# Altium footprint library SparkFun-Connectors.PCBLIB: 312 footprints (part 10 of 20)
Each footprint in its own frame and in the unit in brackets; x right, y up, seen from the top. Pads: shape width x height; smd on the part's side, far side on the other; paste and mask are expansions set on the pad; w line width, h text height; cw(c..) or ccw(c..) is an arc to the next point about the centre after c.
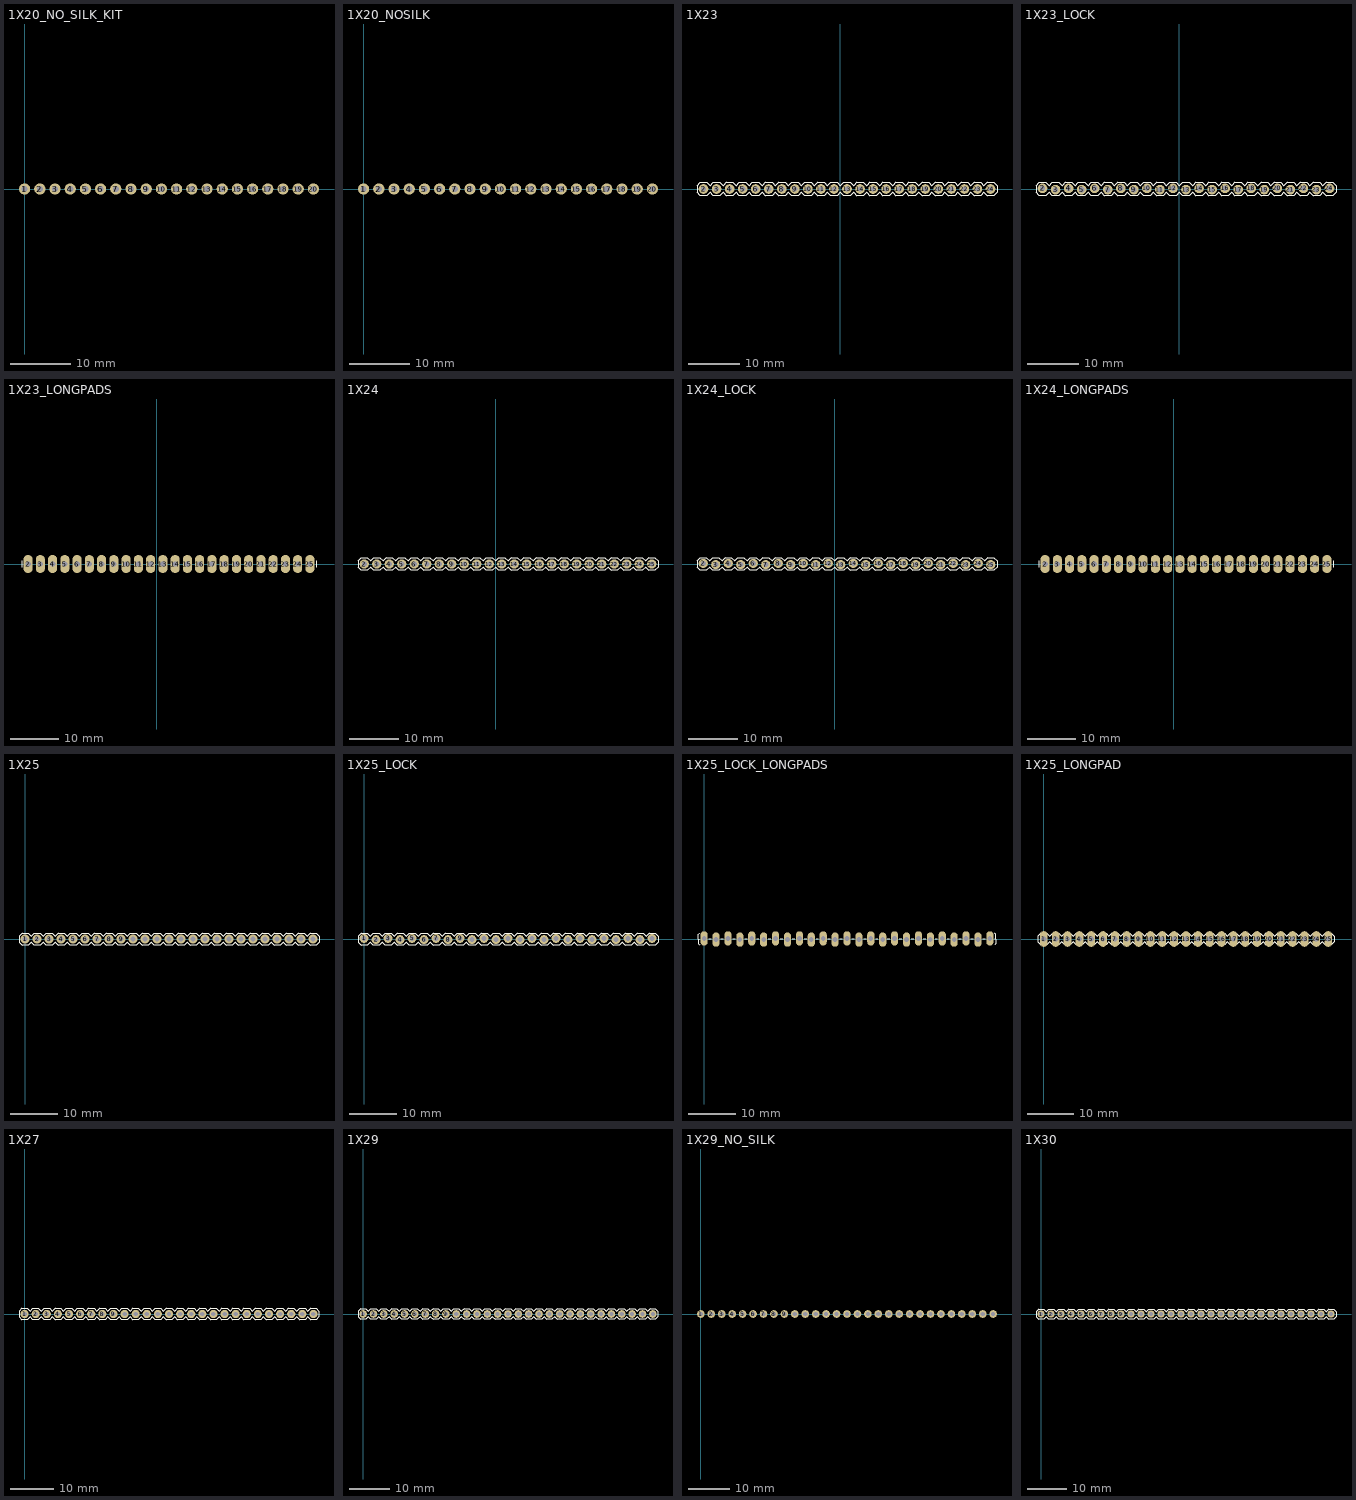
[diagram p9: the footprints below, top view; thin cyan lines are the x and y axes]

## 1X20_NO_SILK_KIT [mil]
pads (20):
  round 74 hole 40: 1(0,0) 2(100,0) 3(200,0) 4(300,0) 5(400,0) 6(500,0) 7(600,0) 8(700,0) 9(800,0) 10(900,0) 11(1000,0) 12(1100,0) 13(1200,0) 14(1300,0) 15(1400,0) 16(1500,0) 17(1600,0) 18(1700,0) 19(1800,0) 20(1900,0)
Top Solder:
  circle w0: c0,0 r20
  circle w0: c100,0 r20
  circle w0: c200,0 r20
  circle w0: c300,0 r20
  circle w0: c400,0 r20
  circle w0: c500,0 r20
  circle w0: c600,0 r20
  circle w0: c700,0 r20
  circle w0: c800,0 r20
  circle w0: c900,0 r20
  circle w0: c1000,0 r20
  circle w0: c1100,0 r20
  circle w0: c1200,0 r20
  circle w0: c1300,0 r20
  circle w0: c1400,0 r20
  circle w0: c1500,0 r20
  circle w0: c1600,0 r20
  circle w0: c1700,0 r20
  circle w0: c1800,0 r20
  circle w0: c1900,0 r20
Bottom Solder:
  circle w0: c0,0 r37
  circle w0: c100,0 r37
  circle w0: c200,0 r37
  circle w0: c300,0 r37
  circle w0: c400,0 r37
  circle w0: c500,0 r37
  circle w0: c600,0 r37
  circle w0: c700,0 r37
  circle w0: c800,0 r37
  circle w0: c900,0 r37
  circle w0: c1000,0 r37
  circle w0: c1100,0 r37
  circle w0: c1200,0 r37
  circle w0: c1300,0 r37
  circle w0: c1400,0 r37
  circle w0: c1500,0 r37
  circle w0: c1600,0 r37
  circle w0: c1700,0 r37
  circle w0: c1800,0 r37
  circle w0: c1900,0 r37

## 1X20_NOSILK [mil]
pads (20):
  round 74 hole 40: 1(0,0) 2(100,0) 3(200,0) 4(300,0) 5(400,0) 6(500,0) 7(600,0) 8(700,0) 9(800,0) 10(900,0) 11(1000,0) 12(1100,0) 13(1200,0) 14(1300,0) 15(1400,0) 16(1500,0) 17(1600,0) 18(1700,0) 19(1800,0) 20(1900,0)
Mechanical 16:
  rectangle: 590,-10 610,10
  rectangle: 490,-10 510,10
  rectangle: 390,-10 410,10
  rectangle: 290,-10 310,10
  rectangle: 190,-10 210,10
  rectangle: 90,-10 110,10
  rectangle: -10,-10 10,10
  rectangle: 1290,-10 1310,10
  rectangle: 1190,-10 1210,10
  rectangle: 1090,-10 1110,10
  rectangle: 990,-10 1010,10
  rectangle: 890,-10 910,10
  rectangle: 790,-10 810,10
  rectangle: 690,-10 710,10
  rectangle: 1390,-10 1410,10
  rectangle: 1490,-10 1510,10
  rectangle: 1590,-10 1610,10
  rectangle: 1690,-10 1710,10
  rectangle: 1790,-10 1810,10
  rectangle: 1890,-10 1910,10

## 1X23 [mil]
pads (23):
  round 74 hole 40: 2(-1050,0) 3(-950,0) 4(-850,0) 5(-750,0) 6(-650,0) 7(-550,0) 8(-450,0) 9(-350,0) 10(-250,0) 11(-150,0) 12(-50,0) 13(50,0) 14(150,0) 15(250,0) 16(350,0) 17(450,0) 18(550,0) 19(650,0) 20(750,0) 21(850,0) 22(950,0) 23(1050,0) 24(1150,0)
Top Overlay:
  lines w8: -1100,-25 -1075,-50 -1025,-50 -1000,-25 -975,-50 -925,-50 -900,-25 -875,-50 -825,-50 -800,-25 -775,-50 -725,-50 -700,-25 -675,-50 -625,-50 -600,-25 -575,-50 -525,-50 -500,-25 -475,-50 -425,-50 -400,-25 -375,-50 -325,-50 -300,-25 -275,-50 -225,-50 -200,-25 -175,-50 -125,-50 -100,-25 -75,-50 -25,-50 0,-25 25,-50 75,-50 100,-25 125,-50 175,-50 200,-25 225,-50 275,-50 300,-25 325,-50 375,-50 400,-25 425,-50 475,-50 500,-25 525,-50 575,-50 600,-25 625,-50 675,-50 700,-25 725,-50 775,-50 800,-25 825,-50 875,-50 900,-25 925,-50 975,-50 1000,-25 1025,-50 1075,-50 1100,-25 1125,-50 1175,-50 1200,-25 1200,25 1175,50 1125,50 1100,25 1075,50 1025,50 1000,25 975,50 925,50 900,25 875,50 825,50 800,25 775,50 725,50 700,25 675,50 625,50 600,25 575,50 525,50 500,25 475,50 425,50 400,25 375,50 325,50 300,25 275,50 225,50 200,25 175,50 125,50 100,25 75,50 25,50 0,25 -25,50 -75,50 -100,25 -125,50 -175,50 -200,25 -225,50 -275,50 -300,25 -325,50 -375,50 -400,25 -425,50 -475,50 -500,25 -525,50 -575,50 -600,25 -625,50 -675,50 -700,25 -725,50 -775,50 -800,25 -825,50 -875,50 -900,25 -925,50 -975,50 -1000,25 -1025,50 -1075,50 -1100,25 -1100,-25
Mechanical 16:
  rectangle: -560,-10 -540,10
  rectangle: -660,-10 -640,10
  rectangle: -760,-10 -740,10
  rectangle: -860,-10 -840,10
  rectangle: -960,-10 -940,10
  rectangle: -1060,-10 -1040,10
  rectangle: 140,-10 160,10
  rectangle: 40,-10 60,10
  rectangle: -60,-10 -40,10
  rectangle: -160,-10 -140,10
  rectangle: -260,-10 -240,10
  rectangle: -360,-10 -340,10
  rectangle: -460,-10 -440,10
  rectangle: 240,-10 260,10
  rectangle: 340,-10 360,10
  rectangle: 440,-10 460,10
  rectangle: 540,-10 560,10
  rectangle: 640,-10 660,10
  rectangle: 740,-10 760,10
  rectangle: 840,-10 860,10
  rectangle: 940,-10 960,10
  rectangle: 1040,-10 1060,10
  rectangle: 1140,-10 1160,10

## 1X23_LOCK [mil]
pads (23):
  round 74 hole 40: 2(-1050,5) 3(-950,-5) 4(-850,5) 5(-750,-5) 6(-650,5) 7(-550,-5) 8(-450,5) 9(-350,-5) 10(-250,5) 11(-150,-5) 12(-50,5) 13(50,-5) 14(150,5) 15(250,-5) 16(350,5) 17(450,-5) 18(550,5) 19(650,-5) 20(750,5) 21(850,-5) 22(950,5) 23(1050,-5) 24(1150,5)
Top Overlay:
  lines w8: -1100,-25 -1075,-50 -1025,-50 -1000,-25 -975,-50 -925,-50 -900,-25 -875,-50 -825,-50 -800,-25 -775,-50 -725,-50 -700,-25 -675,-50 -625,-50 -600,-25 -575,-50 -525,-50 -500,-25 -475,-50 -425,-50 -400,-25 -375,-50 -325,-50 -300,-25 -275,-50 -225,-50 -200,-25 -175,-50 -125,-50 -100,-25 -75,-50 -25,-50 0,-25 25,-50 75,-50 100,-25 125,-50 175,-50 200,-25 225,-50 275,-50 300,-25 325,-50 375,-50 400,-25 425,-50 475,-50 500,-25 525,-50 575,-50 600,-25 625,-50 675,-50 700,-25 725,-50 775,-50 800,-25 825,-50 875,-50 900,-25 925,-50 975,-50 1000,-25 1025,-50 1075,-50 1100,-25 1125,-50 1175,-50 1200,-25 1200,25 1175,50 1125,50 1100,25 1075,50 1025,50 1000,25 975,50 925,50 900,25 875,50 825,50 800,25 775,50 725,50 700,25 675,50 625,50 600,25 575,50 525,50 500,25 475,50 425,50 400,25 375,50 325,50 300,25 275,50 225,50 200,25 175,50 125,50 100,25 75,50 25,50 0,25 -25,50 -75,50 -100,25 -125,50 -175,50 -200,25 -225,50 -275,50 -300,25 -325,50 -375,50 -400,25 -425,50 -475,50 -500,25 -525,50 -575,50 -600,25 -625,50 -675,50 -700,25 -725,50 -775,50 -800,25 -825,50 -875,50 -900,25 -925,50 -975,50 -1000,25 -1025,50 -1075,50 -1100,25 -1100,-25
Mechanical 16:
  rectangle: -560,-10 -540,10
  rectangle: -660,-10 -640,10
  rectangle: -760,-10 -740,10
  rectangle: -860,-10 -840,10
  rectangle: -960,-10 -940,10
  rectangle: -1060,-10 -1040,10
  rectangle: 140,-10 160,10
  rectangle: 40,-10 60,10
  rectangle: -60,-10 -40,10
  rectangle: -160,-10 -140,10
  rectangle: -260,-10 -240,10
  rectangle: -360,-10 -340,10
  rectangle: -460,-10 -440,10
  rectangle: 240,-10 260,10
  rectangle: 340,-10 360,10
  rectangle: 440,-10 460,10
  rectangle: 540,-10 560,10
  rectangle: 640,-10 660,10
  rectangle: 740,-10 760,10
  rectangle: 840,-10 860,10
  rectangle: 940,-10 960,10
  rectangle: 1040,-10 1060,10
  rectangle: 1140,-10 1160,10

## 1X23_LONGPADS [mil]
pads (24):
  oval 74x148 hole 44: 2(-1050,0) 3(-950,0) 4(-850,0) 5(-750,0) 6(-650,0) 7(-550,0) 8(-450,0) 9(-350,0) 10(-250,0) 11(-150,0) 12(-50,0) 13(50,0) 14(150,0) 15(250,0) 16(350,0) 17(450,0) 18(550,0) 19(650,0) 20(750,0) 21(850,0) 22(950,0) 23(1050,0) 24(1150,0) 25(1250,0)
Top Overlay:
  lines w8: -1100,-25 -1100,25 ; 1300,-25 1300,25
Mechanical 16:
  rectangle: -560,-10 -540,10
  rectangle: -660,-10 -640,10
  rectangle: -760,-10 -740,10
  rectangle: -860,-10 -840,10
  rectangle: -960,-10 -940,10
  rectangle: -1060,-10 -1040,10
  rectangle: 140,-10 160,10
  rectangle: 40,-10 60,10
  rectangle: -60,-10 -40,10
  rectangle: -160,-10 -140,10
  rectangle: -260,-10 -240,10
  rectangle: -360,-10 -340,10
  rectangle: -460,-10 -440,10
  rectangle: 240,-10 260,10
  rectangle: 340,-10 360,10
  rectangle: 440,-10 460,10
  rectangle: 540,-10 560,10
  rectangle: 640,-10 660,10
  rectangle: 740,-10 760,10
  rectangle: 840,-10 860,10
  rectangle: 940,-10 960,10
  rectangle: 1040,-10 1060,10
  rectangle: 1140,-10 1160,10
  rectangle: 1240,-10 1260,10

## 1X24 [mil]
pads (24):
  round 74 hole 40: 2(-1050,0) 3(-950,0) 4(-850,0) 5(-750,0) 6(-650,0) 7(-550,0) 8(-450,0) 9(-350,0) 10(-250,0) 11(-150,0) 12(-50,0) 13(50,0) 14(150,0) 15(250,0) 16(350,0) 17(450,0) 18(550,0) 19(650,0) 20(750,0) 21(850,0) 22(950,0) 23(1050,0) 24(1150,0) 25(1250,0)
Top Overlay:
  lines w8: -1100,-25 -1075,-50 -1025,-50 -1000,-25 -975,-50 -925,-50 -900,-25 -875,-50 -825,-50 -800,-25 -775,-50 -725,-50 -700,-25 -675,-50 -625,-50 -600,-25 -575,-50 -525,-50 -500,-25 -475,-50 -425,-50 -400,-25 -375,-50 -325,-50 -300,-25 -275,-50 -225,-50 -200,-25 -175,-50 -125,-50 -100,-25 -75,-50 -25,-50 0,-25 25,-50 75,-50 100,-25 125,-50 175,-50 200,-25 225,-50 275,-50 300,-25 325,-50 375,-50 400,-25 425,-50 475,-50 500,-25 525,-50 575,-50 600,-25 625,-50 675,-50 700,-25 725,-50 775,-50 800,-25 825,-50 875,-50 900,-25 925,-50 975,-50 1000,-25 1025,-50 1075,-50 1100,-25 1125,-50 1175,-50 1200,-25 1225,-50 1275,-50 1300,-25 1300,25 1275,50 1225,50 1200,25 1175,50 1125,50 1100,25 1075,50 1025,50 1000,25 975,50 925,50 900,25 875,50 825,50 800,25 775,50 725,50 700,25 675,50 625,50 600,25 575,50 525,50 500,25 475,50 425,50 400,25 375,50 325,50 300,25 275,50 225,50 200,25 175,50 125,50 100,25 75,50 25,50 0,25 -25,50 -75,50 -100,25 -125,50 -175,50 -200,25 -225,50 -275,50 -300,25 -325,50 -375,50 -400,25 -425,50 -475,50 -500,25 -525,50 -575,50 -600,25 -625,50 -675,50 -700,25 -725,50 -775,50 -800,25 -825,50 -875,50 -900,25 -925,50 -975,50 -1000,25 -1025,50 -1075,50 -1100,25 -1100,-25
Mechanical 16:
  rectangle: -560,-10 -540,10
  rectangle: -660,-10 -640,10
  rectangle: -760,-10 -740,10
  rectangle: -860,-10 -840,10
  rectangle: -960,-10 -940,10
  rectangle: -1060,-10 -1040,10
  rectangle: 140,-10 160,10
  rectangle: 40,-10 60,10
  rectangle: -60,-10 -40,10
  rectangle: -160,-10 -140,10
  rectangle: -260,-10 -240,10
  rectangle: -360,-10 -340,10
  rectangle: -460,-10 -440,10
  rectangle: 240,-10 260,10
  rectangle: 340,-10 360,10
  rectangle: 440,-10 460,10
  rectangle: 540,-10 560,10
  rectangle: 640,-10 660,10
  rectangle: 740,-10 760,10
  rectangle: 840,-10 860,10
  rectangle: 940,-10 960,10
  rectangle: 1040,-10 1060,10
  rectangle: 1140,-10 1160,10
  rectangle: 1240,-10 1260,10

## 1X24_LOCK [mil]
pads (24):
  round 74 hole 40: 2(-1050,5) 3(-950,-5) 4(-850,5) 5(-750,-5) 6(-650,5) 7(-550,-5) 8(-450,5) 9(-350,-5) 10(-250,5) 11(-150,-5) 12(-50,5) 13(50,-5) 14(150,5) 15(250,-5) 16(350,5) 17(450,-5) 18(550,5) 19(650,-5) 20(750,5) 21(850,-5) 22(950,5) 23(1050,-5) 24(1150,5) 25(1250,-5)
Top Overlay:
  lines w8: -1100,-25 -1075,-50 -1025,-50 -1000,-25 -975,-50 -925,-50 -900,-25 -875,-50 -825,-50 -800,-25 -775,-50 -725,-50 -700,-25 -675,-50 -625,-50 -600,-25 -575,-50 -525,-50 -500,-25 -475,-50 -425,-50 -400,-25 -375,-50 -325,-50 -300,-25 -275,-50 -225,-50 -200,-25 -175,-50 -125,-50 -100,-25 -75,-50 -25,-50 0,-25 25,-50 75,-50 100,-25 125,-50 175,-50 200,-25 225,-50 275,-50 300,-25 325,-50 375,-50 400,-25 425,-50 475,-50 500,-25 525,-50 575,-50 600,-25 625,-50 675,-50 700,-25 725,-50 775,-50 800,-25 825,-50 875,-50 900,-25 925,-50 975,-50 1000,-25 1025,-50 1075,-50 1100,-25 1125,-50 1175,-50 1200,-25 1225,-50 1275,-50 1300,-25 1300,25 1275,50 1225,50 1200,25 1175,50 1125,50 1100,25 1075,50 1025,50 1000,25 975,50 925,50 900,25 875,50 825,50 800,25 775,50 725,50 700,25 675,50 625,50 600,25 575,50 525,50 500,25 475,50 425,50 400,25 375,50 325,50 300,25 275,50 225,50 200,25 175,50 125,50 100,25 75,50 25,50 0,25 -25,50 -75,50 -100,25 -125,50 -175,50 -200,25 -225,50 -275,50 -300,25 -325,50 -375,50 -400,25 -425,50 -475,50 -500,25 -525,50 -575,50 -600,25 -625,50 -675,50 -700,25 -725,50 -775,50 -800,25 -825,50 -875,50 -900,25 -925,50 -975,50 -1000,25 -1025,50 -1075,50 -1100,25 -1100,-25
Mechanical 16:
  rectangle: -560,-10 -540,10
  rectangle: -660,-10 -640,10
  rectangle: -760,-10 -740,10
  rectangle: -860,-10 -840,10
  rectangle: -960,-10 -940,10
  rectangle: -1060,-10 -1040,10
  rectangle: 140,-10 160,10
  rectangle: 40,-10 60,10
  rectangle: -60,-10 -40,10
  rectangle: -160,-10 -140,10
  rectangle: -260,-10 -240,10
  rectangle: -360,-10 -340,10
  rectangle: -460,-10 -440,10
  rectangle: 240,-10 260,10
  rectangle: 340,-10 360,10
  rectangle: 440,-10 460,10
  rectangle: 540,-10 560,10
  rectangle: 640,-10 660,10
  rectangle: 740,-10 760,10
  rectangle: 840,-10 860,10
  rectangle: 940,-10 960,10
  rectangle: 1040,-10 1060,10
  rectangle: 1140,-10 1160,10
  rectangle: 1240,-10 1260,10

## 1X24_LONGPADS [mil]
pads (24):
  oval 74x148 hole 44: 2(-1050,0) 3(-950,0) 4(-850,0) 5(-750,0) 6(-650,0) 7(-550,0) 8(-450,0) 9(-350,0) 10(-250,0) 11(-150,0) 12(-50,0) 13(50,0) 14(150,0) 15(250,0) 16(350,0) 17(450,0) 18(550,0) 19(650,0) 20(750,0) 21(850,0) 22(950,0) 23(1050,0) 24(1150,0) 25(1250,0)
Top Overlay:
  lines w8: -1100,-25 -1100,25 ; 1300,-25 1300,25
Mechanical 16:
  rectangle: -560,-10 -540,10
  rectangle: -660,-10 -640,10
  rectangle: -760,-10 -740,10
  rectangle: -860,-10 -840,10
  rectangle: -960,-10 -940,10
  rectangle: -1060,-10 -1040,10
  rectangle: 140,-10 160,10
  rectangle: 40,-10 60,10
  rectangle: -60,-10 -40,10
  rectangle: -160,-10 -140,10
  rectangle: -260,-10 -240,10
  rectangle: -360,-10 -340,10
  rectangle: -460,-10 -440,10
  rectangle: 240,-10 260,10
  rectangle: 340,-10 360,10
  rectangle: 440,-10 460,10
  rectangle: 540,-10 560,10
  rectangle: 640,-10 660,10
  rectangle: 740,-10 760,10
  rectangle: 840,-10 860,10
  rectangle: 940,-10 960,10
  rectangle: 1040,-10 1060,10
  rectangle: 1140,-10 1160,10
  rectangle: 1240,-10 1260,10

## 1X25 [mil]
pads (25):
  round 74 hole 40: 1(0,0) 2(100,0) 3(200,0) 4(300,0) 5(400,0) 6(500,0) 7(600,0) 8(700,0) 9(800,0) 10(900,0) 11(1000,0) 12(1100,0) 13(1200,0) 14(1300,0) 15(1400,0) 16(1500,0) 17(1600,0) 18(1700,0) 19(1800,0) 20(1900,0) 21(2000,0) 22(2100,0) 23(2200,0) 24(2300,0) 25(2400,0)
Top Overlay:
  drawing of 152 lines, arcs and shapes, not listed
Mechanical 16:
  rectangle: 590,-10 610,10
  rectangle: 490,-10 510,10
  rectangle: 390,-10 410,10
  rectangle: 290,-10 310,10
  rectangle: 190,-10 210,10
  rectangle: 90,-10 110,10
  rectangle: -10,-10 10,10
  rectangle: 1290,-10 1310,10
  rectangle: 1190,-10 1210,10
  rectangle: 1090,-10 1110,10
  rectangle: 990,-10 1010,10
  rectangle: 890,-10 910,10
  rectangle: 790,-10 810,10
  rectangle: 690,-10 710,10
  rectangle: 1390,-10 1410,10
  rectangle: 1490,-10 1510,10
  rectangle: 1590,-10 1610,10
  rectangle: 1690,-10 1710,10
  rectangle: 1790,-10 1810,10
  rectangle: 1890,-10 1910,10
  rectangle: 1990,-10 2010,10
  rectangle: 2090,-10 2110,10
  rectangle: 2190,-10 2210,10
  rectangle: 2290,-10 2310,10
  rectangle: 2390,-10 2410,10

## 1X25_LOCK [mil]
pads (25):
  round 74 hole 40: 1(0,5) 2(100,-5) 3(200,5) 4(300,-5) 5(400,5) 6(500,-5) 7(600,5) 8(700,-5) 9(800,5) 10(900,-5) 11(1000,5) 12(1100,-5) 13(1200,5) 14(1300,-5) 15(1400,5) 16(1500,-5) 17(1600,5) 18(1700,-5) 19(1800,5) 20(1900,-5) 21(2000,5) 22(2100,-5) 23(2200,5) 24(2300,-5) 25(2400,5)
Top Overlay:
  drawing of 154 lines, arcs and shapes, not listed
Mechanical 16:
  rectangle: 590,-10 610,10
  rectangle: 490,-10 510,10
  rectangle: 390,-10 410,10
  rectangle: 290,-10 310,10
  rectangle: 190,-10 210,10
  rectangle: 90,-10 110,10
  rectangle: -10,-10 10,10
  rectangle: 1290,-10 1310,10
  rectangle: 1190,-10 1210,10
  rectangle: 1090,-10 1110,10
  rectangle: 990,-10 1010,10
  rectangle: 890,-10 910,10
  rectangle: 790,-10 810,10
  rectangle: 690,-10 710,10
  rectangle: 1390,-10 1410,10
  rectangle: 1490,-10 1510,10
  rectangle: 1590,-10 1610,10
  rectangle: 1690,-10 1710,10
  rectangle: 1790,-10 1810,10
  rectangle: 1890,-10 1910,10
  rectangle: 1990,-10 2010,10
  rectangle: 2090,-10 2110,10
  rectangle: 2190,-10 2210,10
  rectangle: 2290,-10 2310,10
  rectangle: 2390,-10 2410,10

## 1X25_LOCK_LONGPADS [mil]
pads (25):
  oval 60x120 hole 40: 1(0,5) 2(100,-5) 3(200,5) 4(300,-5) 5(400,5) 6(500,-5) 7(600,5) 8(700,-5) 9(800,5) 10(900,-5) 11(1000,5) 12(1100,-5) 13(1200,5) 14(1300,-5) 15(1400,5) 16(1500,-5) 17(1600,5) 18(1700,-5) 19(1800,5) 20(1900,-5) 21(2000,5) 22(2100,-5) 23(2200,5) 24(2300,-5) 25(2400,5)
Top Overlay:
  lines w8: -40,0 -50,0 ; -39,-50 -50,-39 -50,0 ; -39,50 -50,39 -50,0 ; 40,0 60,0 ; 140,0 160,0 ; 240,0 260,0 ; 340,0 360,0 ; 440,0 460,0 ; 540,0 560,0 ; 640,0 660,0 ; 740,0 760,0 ; 840,0 860,0 ; 940,0 960,0 ; 1040,0 1060,0 ; 1140,0 1160,0 ; 1240,0 1260,0 ; 1340,0 1360,0 ; 1440,0 1460,0 ; 1540,0 1560,0 ; 1640,0 1660,0 ; 1740,0 1760,0 ; 1840,0 1860,0 ; 1940,0 1960,0 ; 2040,0 2060,0 ; 2140,0 2160,0 ; 2240,0 2260,0 ; 2340,0 2360,0 ; 2439,-50 2450,-39 2450,0 ; 2439,50 2450,39 2450,0 ; 2440,0 2450,0
Mechanical 16:
  rectangle: -11.5,-11.5 11.5,11.5
  rectangle: 88.5,-11.5 111.5,11.5
  rectangle: 188.5,-11.5 211.5,11.5
  region: 311.5,-11.5 311.5,11.5 288.5,11.5 288.5,-11.5
  rectangle: 388.5,-11.5 411.5,11.5
  rectangle: 488.5,-11.5 511.5,11.5
  rectangle: 588.5,-11.5 611.5,11.5
  rectangle: 688.5,-11.5 711.5,11.5
  rectangle: 788.5,-11.5 811.5,11.5
  region: 911.5,-11.5 911.5,11.5 888.5,11.5 888.5,-11.5
  rectangle: 988.5,-11.5 1011.5,11.5
  rectangle: 1088.5,-11.5 1111.5,11.5
  rectangle: 1188.5,-11.5 1211.5,11.5
  rectangle: 1288.5,-11.5 1311.5,11.5
  rectangle: 1388.5,-11.5 1411.5,11.5
  region: 1511.5,-11.5 1511.5,11.5 1488.5,11.5 1488.5,-11.5
  rectangle: 1588.5,-11.5 1611.5,11.5
  rectangle: 1688.5,-11.5 1711.5,11.5
  rectangle: 1788.5,-11.5 1811.5,11.5
  rectangle: 1888.5,-11.5 1911.5,11.5
  rectangle: 1988.5,-11.5 2011.5,11.5
  rectangle: 2088.5,-11.5 2111.5,11.5
  rectangle: 2188.5,-11.5 2211.5,11.5
  rectangle: 2288.5,-11.5 2311.5,11.5
  rectangle: 2388.5,-11.5 2411.5,11.5

## 1X25_LONGPAD [mil]
pads (25):
  oval 66x132 hole 44: 1(0,0) 2(100,0) 3(200,0) 4(300,0) 5(400,0) 6(500,0) 7(600,0) 8(700,0) 9(800,0) 10(900,0) 11(1000,0) 12(1100,0) 13(1200,0) 14(1300,0) 15(1400,0) 16(1500,0) 17(1600,0) 18(1700,0) 19(1800,0) 20(1900,0) 21(2000,0) 22(2100,0) 23(2200,0) 24(2300,0) 25(2400,0)
Top Overlay:
  drawing of 152 lines, arcs and shapes, not listed
Mechanical 16:
  rectangle: 590,-10 610,10
  rectangle: 490,-10 510,10
  rectangle: 390,-10 410,10
  rectangle: 290,-10 310,10
  rectangle: 190,-10 210,10
  rectangle: 90,-10 110,10
  rectangle: -10,-10 10,10
  rectangle: 1290,-10 1310,10
  rectangle: 1190,-10 1210,10
  rectangle: 1090,-10 1110,10
  rectangle: 990,-10 1010,10
  rectangle: 890,-10 910,10
  rectangle: 790,-10 810,10
  rectangle: 690,-10 710,10
  rectangle: 1390,-10 1410,10
  rectangle: 1490,-10 1510,10
  rectangle: 1590,-10 1610,10
  rectangle: 1690,-10 1710,10
  rectangle: 1790,-10 1810,10
  rectangle: 1890,-10 1910,10
  rectangle: 1990,-10 2010,10
  rectangle: 2090,-10 2110,10
  rectangle: 2190,-10 2210,10
  rectangle: 2290,-10 2310,10
  rectangle: 2390,-10 2410,10

## 1X27 [mil]
pads (27):
  round 74 hole 40: 1(0,0) 2(100,0) 3(200,0) 4(300,0) 5(400,0) 6(500,0) 7(600,0) 8(700,0) 9(800,0) 10(900,0) 11(1000,0) 12(1100,0) 13(1200,0) 14(1300,0) 15(1400,0) 16(1500,0) 17(1600,0) 18(1700,0) 19(1800,0) 20(1900,0) 21(2000,0) 22(2100,0) 23(2200,0) 24(2300,0) 25(2400,0) 26(2500,0) 27(2600,0)
Top Overlay:
  drawing of 164 lines, arcs and shapes, not listed
Mechanical 16:
  rectangle: 590,-10 610,10
  rectangle: 490,-10 510,10
  rectangle: 390,-10 410,10
  rectangle: 290,-10 310,10
  rectangle: 190,-10 210,10
  rectangle: 90,-10 110,10
  rectangle: -10,-10 10,10
  rectangle: 1290,-10 1310,10
  rectangle: 1190,-10 1210,10
  rectangle: 1090,-10 1110,10
  rectangle: 990,-10 1010,10
  rectangle: 890,-10 910,10
  rectangle: 790,-10 810,10
  rectangle: 690,-10 710,10
  rectangle: 1390,-10 1410,10
  rectangle: 1490,-10 1510,10
  rectangle: 1590,-10 1610,10
  rectangle: 1690,-10 1710,10
  rectangle: 1790,-10 1810,10
  rectangle: 1890,-10 1910,10
  rectangle: 1990,-10 2010,10
  rectangle: 2090,-10 2110,10
  rectangle: 2190,-10 2210,10
  rectangle: 2490,-10 2510,10
  rectangle: 2590,-10 2610,10
  rectangle: 2290,-10 2310,10
  rectangle: 2390,-10 2410,10

## 1X29 [mil]
pads (29):
  round 74 hole 40: 1(0,0) 2(100,0) 3(200,0) 4(300,0) 5(400,0) 6(500,0) 7(600,0) 8(700,0) 9(800,0) 10(900,0) 11(1000,0) 12(1100,0) 13(1200,0) 14(1300,0) 15(1400,0) 16(1500,0) 17(1600,0) 18(1700,0) 19(1800,0) 20(1900,0) 21(2000,0) 22(2100,0) 23(2200,0) 24(2300,0) 25(2400,0) 26(2500,0) 27(2600,0) 28(2700,0) 29(2800,0)
Top Overlay:
  drawing of 176 lines, arcs and shapes, not listed
Mechanical 16:
  rectangle: 590,-10 610,10
  rectangle: 490,-10 510,10
  rectangle: 390,-10 410,10
  rectangle: 290,-10 310,10
  rectangle: 190,-10 210,10
  rectangle: 90,-10 110,10
  rectangle: -10,-10 10,10
  rectangle: 1290,-10 1310,10
  rectangle: 1190,-10 1210,10
  rectangle: 1090,-10 1110,10
  rectangle: 990,-10 1010,10
  rectangle: 890,-10 910,10
  rectangle: 790,-10 810,10
  rectangle: 690,-10 710,10
  rectangle: 1390,-10 1410,10
  rectangle: 1490,-10 1510,10
  rectangle: 1590,-10 1610,10
  rectangle: 1690,-10 1710,10
  rectangle: 1790,-10 1810,10
  rectangle: 1890,-10 1910,10
  rectangle: 1990,-10 2010,10
  rectangle: 2090,-10 2110,10
  rectangle: 2190,-10 2210,10
  rectangle: 2490,-10 2510,10
  rectangle: 2590,-10 2610,10
  rectangle: 2290,-10 2310,10
  rectangle: 2390,-10 2410,10
  rectangle: 2690,-10 2710,10
  rectangle: 2790,-10 2810,10

## 1X29_NO_SILK [mil]
pads (29):
  round 74 hole 40: 1(0,0) 2(100,0) 3(200,0) 4(300,0) 5(400,0) 6(500,0) 7(600,0) 8(700,0) 9(800,0) 10(900,0) 11(1000,0) 12(1100,0) 13(1200,0) 14(1300,0) 15(1400,0) 16(1500,0) 17(1600,0) 18(1700,0) 19(1800,0) 20(1900,0) 21(2000,0) 22(2100,0) 23(2200,0) 24(2300,0) 25(2400,0) 26(2500,0) 27(2600,0) 28(2700,0) 29(2800,0)
Mechanical 16:
  rectangle: 590,-10 610,10
  rectangle: 490,-10 510,10
  rectangle: 390,-10 410,10
  rectangle: 290,-10 310,10
  rectangle: 190,-10 210,10
  rectangle: 90,-10 110,10
  rectangle: -10,-10 10,10
  rectangle: 1290,-10 1310,10
  rectangle: 1190,-10 1210,10
  rectangle: 1090,-10 1110,10
  rectangle: 990,-10 1010,10
  rectangle: 890,-10 910,10
  rectangle: 790,-10 810,10
  rectangle: 690,-10 710,10
  rectangle: 1390,-10 1410,10
  rectangle: 1490,-10 1510,10
  rectangle: 1590,-10 1610,10
  rectangle: 1690,-10 1710,10
  rectangle: 1790,-10 1810,10
  rectangle: 1890,-10 1910,10
  rectangle: 1990,-10 2010,10
  rectangle: 2090,-10 2110,10
  rectangle: 2190,-10 2210,10
  rectangle: 2490,-10 2510,10
  rectangle: 2590,-10 2610,10
  rectangle: 2290,-10 2310,10
  rectangle: 2390,-10 2410,10
  rectangle: 2690,-10 2710,10
  rectangle: 2790,-10 2810,10

## 1X30 [mil]
pads (30):
  round 74 hole 40: 1(0,0) 2(100,0) 3(200,0) 4(300,0) 5(400,0) 6(500,0) 7(600,0) 8(700,0) 9(800,0) 10(900,0) 11(1000,0) 12(1100,0) 13(1200,0) 14(1300,0) 15(1400,0) 16(1500,0) 17(1600,0) 18(1700,0) 19(1800,0) 20(1900,0) 21(2000,0) 22(2100,0) 23(2200,0) 24(2300,0) 25(2400,0) 26(2500,0) 27(2600,0) 28(2700,0) 29(2800,0) 30(2900,0)
Top Overlay:
  drawing of 182 lines, arcs and shapes, not listed
Mechanical 16:
  rectangle: 590,-10 610,10
  rectangle: 490,-10 510,10
  rectangle: 390,-10 410,10
  rectangle: 290,-10 310,10
  rectangle: 190,-10 210,10
  rectangle: 90,-10 110,10
  rectangle: -10,-10 10,10
  rectangle: 1290,-10 1310,10
  rectangle: 1190,-10 1210,10
  rectangle: 1090,-10 1110,10
  rectangle: 990,-10 1010,10
  rectangle: 890,-10 910,10
  rectangle: 790,-10 810,10
  rectangle: 690,-10 710,10
  rectangle: 1390,-10 1410,10
  rectangle: 1490,-10 1510,10
  rectangle: 1590,-10 1610,10
  rectangle: 1690,-10 1710,10
  rectangle: 1790,-10 1810,10
  rectangle: 1890,-10 1910,10
  rectangle: 1990,-10 2010,10
  rectangle: 2090,-10 2110,10
  rectangle: 2190,-10 2210,10
  rectangle: 2490,-10 2510,10
  rectangle: 2590,-10 2610,10
  rectangle: 2290,-10 2310,10
  rectangle: 2390,-10 2410,10
  rectangle: 2690,-10 2710,10
  rectangle: 2790,-10 2810,10
  rectangle: 2890,-10 2910,10